# Altium footprint library 继电器.PcbLib: 48 footprints (part 2 of 3)
Each footprint in its own frame and in the unit in brackets; x right, y up, seen from the top. Pads: shape width x height; smd on the part's side, far side on the other; paste and mask are expansions set on the pad; w line width, h text height; cw(c..) or ccw(c..) is an arc to the next point about the centre after c.
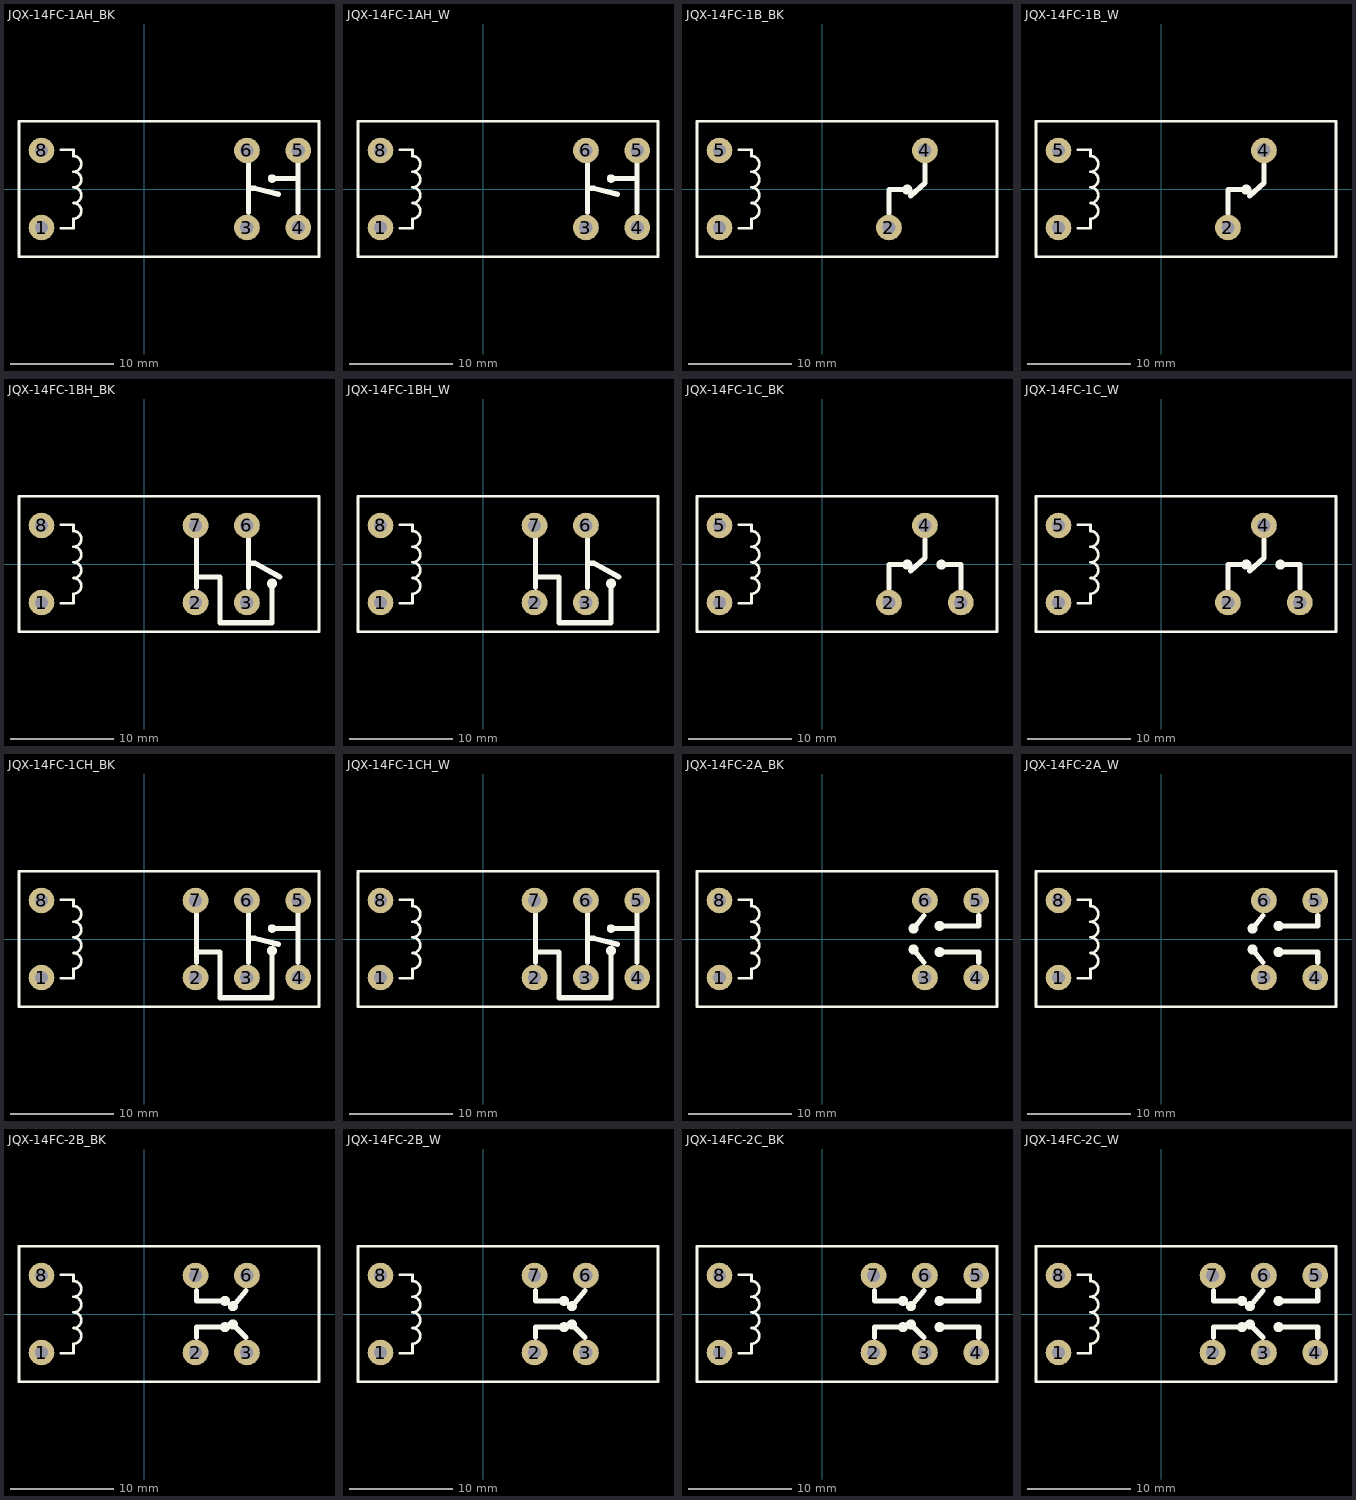
[diagram p1: the footprints below, top view; thin cyan lines are the x and y axes]

## JQX-14FC-1AH_BK [mm] "单刀常开，长：29mm，宽：13mm，高：26mm"
pads (6):
  round 2.5 hole 1.3: 1(-10,-3.75) 3(10,-3.75) 4(15,-3.75) 5(15,3.75) 6(10,3.75) 8(-10,3.75)
Top Overlay:
  circle w0.254: c12.446,1.016 r0.284
  lines w0.25: -12.192,-6.604 -12.192,6.604 -12.065,6.604 17.018,6.604 17.018,-6.604 -12.192,-6.604
  lines w0.254: -8.128,-3.81 -6.89,-3.81 -6.89,-2.89 ccw(c-6.89,-2.128) -6.89,-1.366 ccw(c-6.89,-0.604) -6.89,0.158 ccw(c-6.89,0.92) -6.89,1.682 ccw(c-6.89,2.444) -6.89,3.206 -6.89,3.81 -8.128,3.81
  lines w0.508: 10.16,-2.286 10.16,2.413 ; 10.16,0.064 10.795,0.064 13.081,-0.508 ; 12.446,1.016 14.986,1.016 ; 14.986,-2.286 14.986,2.413
3D body "JQX-14FC-1AH_BK-.STEP": height 26.35, standoff -3.65, extent -12.214,-6.523 16.786,6.477

## JQX-14FC-1AH_W [mm] "单刀常开，长：29mm，宽：13mm，高：26mm"
pads (6):
  round 2.5 hole 1.3: 1(-10,-3.75) 3(10,-3.75) 4(15,-3.75) 5(15,3.75) 6(10,3.75) 8(-10,3.75)
Top Overlay:
  circle w0.254: c12.446,1.016 r0.284
  lines w0.25: -12.192,-6.604 -12.192,6.604 -12.065,6.604 17.018,6.604 17.018,-6.604 -12.192,-6.604
  lines w0.254: -8.128,-3.81 -6.89,-3.81 -6.89,-2.89 ccw(c-6.89,-2.128) -6.89,-1.366 ccw(c-6.89,-0.604) -6.89,0.158 ccw(c-6.89,0.92) -6.89,1.682 ccw(c-6.89,2.444) -6.89,3.206 -6.89,3.81 -8.128,3.81
  lines w0.508: 10.16,-2.286 10.16,2.413 ; 10.16,0.064 10.795,0.064 13.081,-0.508 ; 12.446,1.016 14.986,1.016 ; 14.986,-2.286 14.986,2.413
3D body "JQX-14FC-1AH_W-.STEP": height 26.35, standoff -3.65, extent -12.087,-6.523 16.913,6.477

## JQX-14FC-1B_BK [mm] "单刀常闭，长：29mm，宽：13mm，高：26mm"
pads (4):
  round 2.5 hole 1.3: 1(-10,-3.75) 2(6.5,-3.75) 4(10,3.75) 5(-10,3.75)
Top Overlay:
  circle w0.254: c8.278,-0.06 r0.37
  lines w0.25: -12.192,-6.604 -12.192,6.604 -12.065,6.604 17.018,6.604 17.018,-6.604 -12.192,-6.604
  lines w0.254: -8.128,-3.81 -6.89,-3.81 -6.89,-2.89 ccw(c-6.89,-2.128) -6.89,-1.366 ccw(c-6.89,-0.604) -6.89,0.158 ccw(c-6.89,0.92) -6.89,1.682 ccw(c-6.89,2.444) -6.89,3.206 -6.89,3.81 -8.128,3.81
  lines w0.508: 6.5,-2.353 6.5,-0.06 8.278,-0.06 ; 8.603,-0.695 10,0.575 10,2.353
3D body "JQX-14FC-1B_BK-.STEP": height 26.35, standoff -3.65, extent -12.087,-6.396 16.913,6.604

## JQX-14FC-1B_W [mm] "单刀常闭，长：29mm，宽：13mm，高：26mm"
pads (4):
  round 2.5 hole 1.3: 1(-10,-3.75) 2(6.5,-3.75) 4(10,3.75) 5(-10,3.75)
Top Overlay:
  circle w0.254: c8.278,-0.06 r0.37
  lines w0.25: -12.192,-6.604 -12.192,6.604 -12.065,6.604 17.018,6.604 17.018,-6.604 -12.192,-6.604
  lines w0.254: -8.128,-3.81 -6.89,-3.81 -6.89,-2.89 ccw(c-6.89,-2.128) -6.89,-1.366 ccw(c-6.89,-0.604) -6.89,0.158 ccw(c-6.89,0.92) -6.89,1.682 ccw(c-6.89,2.444) -6.89,3.206 -6.89,3.81 -8.128,3.81
  lines w0.508: 6.5,-2.353 6.5,-0.06 8.278,-0.06 ; 8.603,-0.695 10,0.575 10,2.353
3D body "JQX-14FC-1B_W-.STEP": height 26.35, standoff -3.65, extent -12.087,-6.523 16.913,6.477

## JQX-14FC-1BH_BK [mm] "单刀常闭，长：29mm，宽：13mm，高：26mm"
pads (6):
  round 2.5 hole 1.3: 1(-10,-3.75) 2(5,-3.75) 3(10,-3.75) 6(10,3.75) 7(5,3.75) 8(-10,3.75)
Top Overlay:
  circle w0.254: c12.446,-1.905 r0.359
  lines w0.25: -12.192,-6.604 17.018,-6.604 17.018,6.604 -12.065,6.604 -12.192,6.604 -12.192,-6.604
  lines w0.254: -8.128,-3.81 -6.89,-3.81 -6.89,-2.89 ccw(c-6.89,-2.128) -6.89,-1.366 ccw(c-6.89,-0.604) -6.89,0.158 ccw(c-6.89,0.92) -6.89,1.682 ccw(c-6.89,2.444) -6.89,3.206 -6.89,3.81 -8.128,3.81
  lines w0.508: 5.08,-2.286 5.08,2.413 ; 5.08,-1.27 7.366,-1.27 7.366,-5.715 12.446,-5.715 12.446,-1.905 ; 10.16,-2.286 10.16,2.413 ; 10.16,0.064 10.795,0.064 13.208,-1.27
3D body "JQX-14FC-1BH_BK-.STEP": height 26.35, standoff -3.65, extent -12.109,-6.396 16.891,6.604

## JQX-14FC-1BH_W [mm] "单刀常闭，长：29mm，宽：13mm，高：26mm"
pads (6):
  round 2.5 hole 1.3: 1(-10,-3.75) 2(5,-3.75) 3(10,-3.75) 6(10,3.75) 7(5,3.75) 8(-10,3.75)
Top Overlay:
  circle w0.254: c12.446,-1.905 r0.359
  lines w0.25: -12.192,-6.604 17.018,-6.604 17.018,6.604 -12.065,6.604 -12.192,6.604 -12.192,-6.604
  lines w0.254: -8.128,-3.81 -6.89,-3.81 -6.89,-2.89 ccw(c-6.89,-2.128) -6.89,-1.366 ccw(c-6.89,-0.604) -6.89,0.158 ccw(c-6.89,0.92) -6.89,1.682 ccw(c-6.89,2.444) -6.89,3.206 -6.89,3.81 -8.128,3.81
  lines w0.508: 5.08,-2.286 5.08,2.413 ; 5.08,-1.27 7.366,-1.27 7.366,-5.715 12.446,-5.715 12.446,-1.905 ; 10.16,-2.286 10.16,2.413 ; 10.16,0.064 10.795,0.064 13.208,-1.27
3D body "JQX-14FC-1BH_W-.STEP": height 26.35, standoff -3.65, extent -12.087,-6.523 16.913,6.477

## JQX-14FC-1C_BK [mm] "单刀双投，长：29mm，宽：13mm，高：26mm"
pads (5):
  round 2.5 hole 1.3: 1(-10,-3.75) 2(6.5,-3.75) 3(13.5,-3.75) 4(10,3.75) 5(-10,3.75)
Top Overlay:
  circle w0.254: c8.278,-0.06 r0.37
  circle w0.254: c11.595,-0.06 r0.359
  lines w0.25: -12.192,-6.604 -12.192,6.604 -12.065,6.604 17.018,6.604 17.018,-6.604 -12.192,-6.604
  lines w0.254: -8.128,-3.81 -6.89,-3.81 -6.89,-2.89 ccw(c-6.89,-2.128) -6.89,-1.366 ccw(c-6.89,-0.604) -6.89,0.158 ccw(c-6.89,0.92) -6.89,1.682 ccw(c-6.89,2.444) -6.89,3.206 -6.89,3.81 -8.128,3.81
  lines w0.508: 6.5,-2.353 6.5,-0.06 8.278,-0.06 ; 8.603,-0.695 10,0.575 10,2.353 ; 11.595,-0.06 13.5,-0.06 13.5,-2.353
3D body "JQX-14FC-1C_BK-.STEP": height 26.35, standoff -3.65, extent -12.087,-6.523 16.913,6.477

## JQX-14FC-1C_W [mm] "单刀双投，长：29mm，宽：13mm，高：26mm"
pads (5):
  round 2.5 hole 1.3: 1(-10,-3.75) 2(6.5,-3.75) 3(13.5,-3.75) 4(10,3.75) 5(-10,3.75)
Top Overlay:
  circle w0.254: c8.278,-0.06 r0.37
  circle w0.254: c11.595,-0.06 r0.359
  lines w0.25: -12.192,-6.604 -12.192,6.604 -12.065,6.604 17.018,6.604 17.018,-6.604 -12.192,-6.604
  lines w0.254: -8.128,-3.81 -6.89,-3.81 -6.89,-2.89 ccw(c-6.89,-2.128) -6.89,-1.366 ccw(c-6.89,-0.604) -6.89,0.158 ccw(c-6.89,0.92) -6.89,1.682 ccw(c-6.89,2.444) -6.89,3.206 -6.89,3.81 -8.128,3.81
  lines w0.508: 6.5,-2.353 6.5,-0.06 8.278,-0.06 ; 8.603,-0.695 10,0.575 10,2.353 ; 11.595,-0.06 13.5,-0.06 13.5,-2.353
3D body "JQX-14FC-1C_W-.STEP": height 26.35, standoff -3.65, extent -12.087,-6.523 16.913,6.477

## JQX-14FC-1CH_BK [mm] "单刀双投，长：29mm，宽：13mm，高：26mm"
pads (8):
  round 2.5 hole 1.3: 1(-10,-3.75) 2(5,-3.75) 3(10,-3.75) 4(15,-3.75) 5(15,3.75) 6(10,3.75) 7(5,3.75) 8(-10,3.75)
Top Overlay:
  circle w0.254: c12.446,1.016 r0.284
  circle w0.254: c12.446,-1.143 r0.359
  lines w0.25: -12.192,-6.604 17.018,-6.604 17.018,6.604 -12.065,6.604 -12.192,6.604 -12.192,-6.604
  lines w0.254: -8.128,-3.81 -6.89,-3.81 -6.89,-2.89 ccw(c-6.89,-2.128) -6.89,-1.366 ccw(c-6.89,-0.604) -6.89,0.158 ccw(c-6.89,0.92) -6.89,1.682 ccw(c-6.89,2.444) -6.89,3.206 -6.89,3.81 -8.128,3.81
  lines w0.508: 5.08,-2.286 5.08,2.413 ; 5.08,-1.27 7.366,-1.27 7.366,-5.715 12.446,-5.715 12.446,-2.413 12.446,-1.143 ; 10.16,-2.286 10.16,2.413 ; 10.16,0.064 10.795,0.064 13.081,-0.508 ; 12.446,1.016 14.986,1.016 ; 14.986,-2.286 14.986,2.413
3D body "JQX-14FC-1CH_BK-.STEP": height 26.35, standoff -3.65, extent -12.109,-6.5 16.891,6.5

## JQX-14FC-1CH_W [mm] "单刀双投，长：29mm，宽：13mm，高：26mm"
pads (8):
  round 2.5 hole 1.3: 1(-10,-3.75) 2(5,-3.75) 3(10,-3.75) 4(15,-3.75) 5(15,3.75) 6(10,3.75) 7(5,3.75) 8(-10,3.75)
Top Overlay:
  circle w0.254: c12.446,-1.143 r0.359
  circle w0.254: c12.446,1.016 r0.284
  lines w0.25: -12.192,-6.604 -12.192,6.604 -12.065,6.604 17.018,6.604 17.018,-6.604 -12.192,-6.604
  lines w0.254: -8.128,-3.81 -6.89,-3.81 -6.89,-2.89 ccw(c-6.89,-2.128) -6.89,-1.366 ccw(c-6.89,-0.604) -6.89,0.158 ccw(c-6.89,0.92) -6.89,1.682 ccw(c-6.89,2.444) -6.89,3.206 -6.89,3.81 -8.128,3.81
  lines w0.508: 5.08,-2.286 5.08,2.413 ; 5.08,-1.27 7.366,-1.27 7.366,-5.715 12.446,-5.715 12.446,-2.413 12.446,-1.143 ; 10.16,-2.286 10.16,2.413 ; 10.16,0.064 10.795,0.064 13.081,-0.508 ; 12.446,1.016 14.986,1.016 ; 14.986,-2.286 14.986,2.413
3D body "JQX-14FC-1CH_W-.STEP": height 26.35, standoff -3.65, extent -12.109,-6.5 16.891,6.5

## JQX-14FC-2A_BK [mm] "双刀常开，长：29mm，宽：13mm，高：26mm"
pads (6):
  round 2.5 hole 1.3: 1(-10,-3.75) 3(10,-3.75) 4(15,-3.75) 5(15,3.75) 6(10,3.75) 8(-10,3.75)
Top Overlay:
  circle w0.254: c8.89,-1.016 r0.359
  circle w0.254: c8.89,1.016 r0.359
  circle w0.254: c11.43,-1.27 r0.359
  circle w0.254: c11.43,1.27 r0.359
  lines w0.25: -12.192,-6.604 -12.192,6.604 -12.065,6.604 17.018,6.604 17.018,-6.604 -12.192,-6.604
  lines w0.254: -8.128,-3.81 -6.89,-3.81 -6.89,-2.89 ccw(c-6.89,-2.128) -6.89,-1.366 ccw(c-6.89,-0.604) -6.89,0.158 ccw(c-6.89,0.92) -6.89,1.682 ccw(c-6.89,2.444) -6.89,3.206 -6.89,3.81 -8.128,3.81
  lines w0.508: 8.89,-1.016 9.906,-2.286 ; 8.89,1.016 9.906,2.286 ; 11.43,-1.27 15.24,-1.27 15.24,-2.286 ; 11.43,1.27 15.24,1.27 15.24,2.286
3D body "JQX-14FC-2A_BK-.STEP": height 26.35, standoff -3.65, extent -12.087,-6.523 16.913,6.477

## JQX-14FC-2A_W [mm] "双刀常开，长：29mm，宽：13mm，高：26mm"
pads (6):
  round 2.5 hole 1.3: 1(-10,-3.75) 3(10,-3.75) 4(15,-3.75) 5(15,3.75) 6(10,3.75) 8(-10,3.75)
Top Overlay:
  circle w0.254: c11.43,1.27 r0.359
  circle w0.254: c11.43,-1.27 r0.359
  circle w0.254: c8.89,1.016 r0.359
  circle w0.254: c8.89,-1.016 r0.359
  lines w0.25: -12.192,-6.604 17.018,-6.604 17.018,6.604 -12.065,6.604 -12.192,6.604 -12.192,-6.604
  lines w0.254: -8.128,-3.81 -6.89,-3.81 -6.89,-2.89 ccw(c-6.89,-2.128) -6.89,-1.366 ccw(c-6.89,-0.604) -6.89,0.158 ccw(c-6.89,0.92) -6.89,1.682 ccw(c-6.89,2.444) -6.89,3.206 -6.89,3.81 -8.128,3.81
  lines w0.508: 8.89,-1.016 9.906,-2.286 ; 8.89,1.016 9.906,2.286 ; 11.43,-1.27 15.24,-1.27 15.24,-2.286 ; 11.43,1.27 15.24,1.27 15.24,2.286
3D body "JQX-14FC-2A_W-.STEP": height 26.35, standoff -3.65, extent -12.087,-6.523 16.913,6.477

## JQX-14FC-2B_BK [mm] "双刀常闭，长：29mm，宽：13mm，高：26mm"
pads (6):
  round 2.5 hole 1.3: 1(-10,-3.75) 2(5,-3.75) 3(10,-3.75) 6(10,3.75) 7(5,3.75) 8(-10,3.75)
Top Overlay:
  circle w0.254: c7.874,1.27 r0.359
  circle w0.254: c7.874,-1.27 r0.359
  circle w0.254: c8.636,0.762 r0.359
  circle w0.254: c8.636,-1.016 r0.359
  lines w0.25: -12.192,-6.604 17.018,-6.604 17.018,6.604 -12.065,6.604 -12.192,6.604 -12.192,-6.604
  lines w0.254: -8.128,-3.81 -6.89,-3.81 -6.89,-2.89 ccw(c-6.89,-2.128) -6.89,-1.366 ccw(c-6.89,-0.604) -6.89,0.158 ccw(c-6.89,0.92) -6.89,1.682 ccw(c-6.89,2.444) -6.89,3.206 -6.89,3.81 -8.128,3.81
  lines w0.508: 5.08,-2.286 5.08,-1.27 7.874,-1.27 ; 5.08,2.286 5.08,1.27 7.874,1.27 ; 8.636,-1.016 9.906,-2.286 ; 8.636,0.762 9.906,2.286
3D body "JQX-14FC-2B_BK-.STEP": height 26.35, standoff -3.65, extent -12.087,-6.523 16.913,6.477

## JQX-14FC-2B_W [mm] "双刀常闭，长：29mm，宽：13mm，高：26mm"
pads (6):
  round 2.5 hole 1.3: 1(-10,-3.75) 2(5,-3.75) 3(10,-3.75) 6(10,3.75) 7(5,3.75) 8(-10,3.75)
Top Overlay:
  circle w0.254: c7.874,1.27 r0.359
  circle w0.254: c7.874,-1.27 r0.359
  circle w0.254: c8.636,0.762 r0.359
  circle w0.254: c8.636,-1.016 r0.359
  lines w0.25: -12.192,-6.604 17.018,-6.604 17.018,6.604 -12.065,6.604 -12.192,6.604 -12.192,-6.604
  lines w0.254: -8.128,-3.81 -6.89,-3.81 -6.89,-2.89 ccw(c-6.89,-2.128) -6.89,-1.366 ccw(c-6.89,-0.604) -6.89,0.158 ccw(c-6.89,0.92) -6.89,1.682 ccw(c-6.89,2.444) -6.89,3.206 -6.89,3.81 -8.128,3.81
  lines w0.508: 5.08,-2.286 5.08,-1.27 7.874,-1.27 ; 5.08,2.286 5.08,1.27 7.874,1.27 ; 8.636,-1.016 9.906,-2.286 ; 8.636,0.762 9.906,2.286
3D body "JQX-14FC-2B_W-.STEP": height 26.35, standoff -3.65, extent -12.087,-6.523 16.913,6.477

## JQX-14FC-2C_BK [mm] "双刀双投，长：29mm，宽：13mm，高：26mm"
pads (8):
  round 2.5 hole 1.3: 1(-10,-3.75) 2(5,-3.75) 3(10,-3.75) 4(15,-3.75) 5(15,3.75) 6(10,3.75) 7(5,3.75) 8(-10,3.75)
Top Overlay:
  circle w0.254: c8.636,-1.016 r0.359
  circle w0.254: c8.636,0.762 r0.359
  circle w0.254: c7.874,-1.27 r0.359
  circle w0.254: c7.874,1.27 r0.359
  circle w0.254: c11.43,-1.27 r0.359
  circle w0.254: c11.43,1.27 r0.359
  lines w0.25: -12.192,-6.604 -12.192,6.604 -12.065,6.604 17.018,6.604 17.018,-6.604 -12.192,-6.604
  lines w0.254: -8.128,-3.81 -6.89,-3.81 -6.89,-2.89 ccw(c-6.89,-2.128) -6.89,-1.366 ccw(c-6.89,-0.604) -6.89,0.158 ccw(c-6.89,0.92) -6.89,1.682 ccw(c-6.89,2.444) -6.89,3.206 -6.89,3.81 -8.128,3.81
  lines w0.508: 5.08,-2.286 5.08,-1.27 7.874,-1.27 ; 5.08,2.286 5.08,1.27 7.874,1.27 ; 8.636,-1.016 9.906,-2.286 ; 8.636,0.762 9.906,2.286 ; 11.43,-1.27 15.24,-1.27 15.24,-2.286 ; 11.43,1.27 15.24,1.27 15.24,2.286
3D body "JQX-14FC-2C_BK-.STEP": height 26.35, standoff -3.65, extent -12.087,-6.523 16.913,6.477

## JQX-14FC-2C_W [mm] "双刀双投，长：29mm，宽：13mm，高：26mm"
pads (8):
  round 2.5 hole 1.3: 1(-10,-3.75) 2(5,-3.75) 3(10,-3.75) 4(15,-3.75) 5(15,3.75) 6(10,3.75) 7(5,3.75) 8(-10,3.75)
Top Overlay:
  circle w0.254: c11.43,1.27 r0.359
  circle w0.254: c11.43,-1.27 r0.359
  circle w0.254: c7.874,1.27 r0.359
  circle w0.254: c7.874,-1.27 r0.359
  circle w0.254: c8.636,0.762 r0.359
  circle w0.254: c8.636,-1.016 r0.359
  lines w0.25: -12.192,-6.604 17.018,-6.604 17.018,6.604 -12.065,6.604 -12.192,6.604 -12.192,-6.604
  lines w0.254: -8.128,-3.81 -6.89,-3.81 -6.89,-2.89 ccw(c-6.89,-2.128) -6.89,-1.366 ccw(c-6.89,-0.604) -6.89,0.158 ccw(c-6.89,0.92) -6.89,1.682 ccw(c-6.89,2.444) -6.89,3.206 -6.89,3.81 -8.128,3.81
  lines w0.508: 5.08,-2.286 5.08,-1.27 7.874,-1.27 ; 5.08,2.286 5.08,1.27 7.874,1.27 ; 8.636,-1.016 9.906,-2.286 ; 8.636,0.762 9.906,2.286 ; 11.43,-1.27 15.24,-1.27 15.24,-2.286 ; 11.43,1.27 15.24,1.27 15.24,2.286
3D body "JQX-14FC-2C_W-.STEP": height 26.35, standoff -3.65, extent -12.087,-6.523 16.913,6.477